# Altium schematic symbol library SchemLib.SchLib: 21 symbols
Pins are listed as number, name and electrical type; pins without a type are passive.

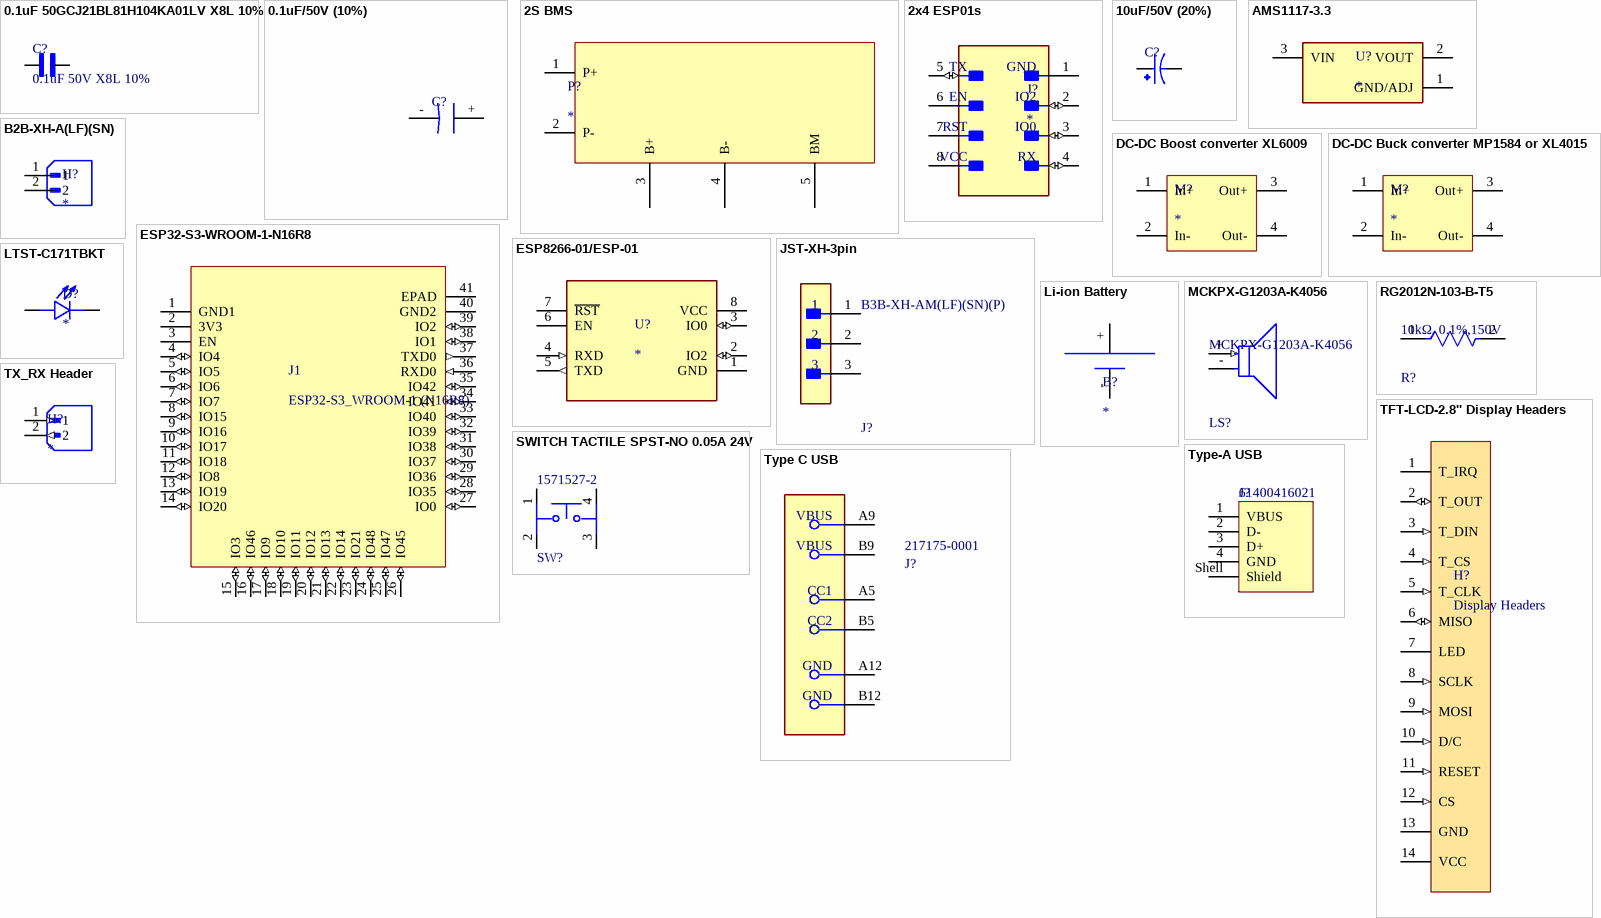
[diagram p0: symbols 0.1uF 50GCJ21BL81H104KA01LV X8L 10% to Type-A USB]

## 0.1uF 50GCJ21BL81H104KA01LV X8L 10%
designator C?, comment 0.1uF 50V X8L 10%
Cap Ceramic 0.1uF 50V X8L 10% Pad SMD 0805 Soft Termination 150C Automotive T/R; MF: Murata; MP: GCJ21BL81H104KA01L; SnapEDA_Link: https://www.snapeda.com/parts/GCJ21BL81H104KA01L/Murata+Electronics+North+America/view-part/?ref=snap; Package: 2012 Murata; Value: *; Check_prices: https://www.snapeda.com/parts/GCJ21BL81H104KA01L/Murata+Electronics+North+America/view-part/?ref=eda
footprint CAPC2012X145N
pins: 1, 2

## 0.1uF/50V (10%)
designator C?
Capacitor 0.1uF/50V (20%) SMD
pins: +, -

## 2S BMS
designator P?
footprint 2S BMS
pins: 1 P+ (power), 2 P- (power), 3 B+ (power), 4 B- (power), 5 BM (power)

## 2x4 ESP01s
designator J?
footprint MODULE_ESP-01
pins: 1 (power), 2 (io), 3 (io), 4 (io), 5 (io), 6 (power), 7 (power), 8 (power)
text: TX; GND; EN; IO2; RST; IO0; VCC; RX

## 10uF/50V (20%)
designator C?
Capacitor 10uF/50V (20%) SMD Electrolytic 5*5.4
footprint CAP_EEE1EA100SR
pins: 1, 2

## AMS1117-3.3
designator U?
Sot223/Pkg 1-Amp 3.3-Volt Low Drop Out Voltage Regulatator; MF: Advanced Monolithic Systems; MP: AMS1117-3.3; Package: SOT-223 Seeed Technology; Value: *; Check_prices: https://www.snapeda.com/parts/AMS1117-3.3/Advanced+Monolithic+Systems/view-part/?ref=eda; Price: None; Availability: Not in stock; SnapEDA_Link: https://www.snapeda.com/parts/AMS1117-3.3/Advanced+Monolithic+Systems/view-part/?ref=snap
footprint SOT229P700X180-4N
pins: 1 GND/ADJ (power), 2 VOUT (power), 3 VIN (power)

## B2B-XH-A(LF)(SN)
designator H?
Connector Header Through Hole 2 position 0.098 (2.50mm); MF: JST Sales America Inc.; MP: B2B-XH-A(LF)(SN); SnapEDA_Link: https://www.snapeda.com/parts/B2B-XH-A(LF)(SN)/JST+Sales+America+Inc./view-part/?ref=snap; Package: None; Value: *; Check_prices: https://www.snapeda.com/parts/B2B-XH-A(LF)(SN)/JST+Sales+America+Inc./view-part/?ref=eda
footprint JST_B2B-XH-A(LF)(SN)
pins: 1, 2

## DC-DC Boost converter XL6009
designator M?
footprint DC-DC boost
pins: 1 In+ (power), 2 In- (power), 3 Out+ (power), 4 Out- (power)

## DC-DC Buck converter MP1584 or XL4015
designator M?
footprint DC-DC boost
pins: 1 In+ (power), 2 In- (power), 3 Out+ (power), 4 Out- (power)

## ESP32-S3-WROOM-1-N16R8
designator J1, comment ESP32-S3_WROOM-1 (N16R8)
Multiprotocol Modules SMD Module, ESP32-S3R8, 3.3V, 8 MB Octal PSRAM Die, 16 MB Quad SPI Flash, PCB Antenna; Supplier 1: Digikey; Supplier Part Number 1: 1965-ESP32-S3-WROOM-1-N16R8CT-ND
footprint XCVR_ESP32-S3-WROOM-1-N16R2
pins: 1 GND1 (power), 2 3V3 (power), 3 EN (power), 4 IO4 (io), 5 IO5 (io), 6 IO6 (io), 7 IO7 (io), 8 IO15 (io), 9 IO16 (io), 10 IO17 (io), 11 IO18 (io), 12 IO8 (io), 13 IO19 (io), 14 IO20 (io), 15 IO3 (io), 16 IO46 (io), 17 IO9 (io), 18 IO10 (io), 19 IO11 (io), 20 IO12 (io), 21 IO13 (io), 22 IO14 (io), 23 IO21 (io), 24 IO48 (io), 25 IO47 (io), 26 IO45 (io), 27 IO0 (io), 28 IO35 (io), 29 IO36 (io), 30 IO37 (io), 31 IO38 (io), 32 IO39 (io), 33 IO40 (io), 34 IO41 (io), 35 IO42 (io), 36 RXD0 (in), 37 TXD0 (out), 38 IO1 (io), 39 IO2 (io), 40 GND2 (power), 41 EPAD (power)

## ESP8266-01/ESP-01
designator U?
MakerFocus 4pcs ESP8266 ESP-01 Serial Wireless WiFi Transceiver Receiver Module 1MB SPI Flash DC3.0-3.6V Internet of Things WiFi Module Board Compatible with Ar duino; MP: ESP8266-01/ESP-01; Value: *; Package: None; Availability: Unavailable; Price: None
footprint XCVR_ESP8266-01/ESP-01
pins: 1 GND (power), 2 IO2 (io), 3 IO0 (io), 4 RXD (in), 5 TXD (out), 6 EN (power), 7 ~{RST} (power), 8 VCC (power)

## JST-XH-3pin
designator J?, comment B3B-XH-AM(LF)(SN)(P)
CONN HEADER VERT 3POS 2.5MM; Number of Positions: 3; Connector Type: Male Pin; Pitch: 0.098inch; Package Quantity: 1000; Series: XH; Termination: Press-Fit; Contact Type: Male Pin; Color: Natural; Packaging: Bulk; Contact Plating: Tin; Mount: Through Hole; Number of Rows: 1
footprint FP-B3B-XH-AM_LF_SN_P-MFG
pins: 1, 2, 3

## Li-ion Battery
designator B?
pins: +, -

## LTST-C171TBKT
designator D?
Blue 470nm LED Indication - Discrete 3.3V 0805 (2012 Metric); MF: Lite-On Inc.; MP: LTST-C171TBKT; SnapEDA_Link: https://www.snapeda.com/parts/LTST-C171TBKT/Lite-On+Inc./view-part/?ref=snap; Package: 0805 Lite-On; Value: *; Check_prices: https://www.snapeda.com/parts/LTST-C171TBKT/Lite-On+Inc./view-part/?ref=eda
footprint DIOC200X125X110
pins: A POS, C NEG

## MCKPX-G1203A-K4056
designator LS?
MAGNETIC BUZZER AND TRANSDUCER - More Details; Manufacturer: Multicomp Pro; Operating Supply Voltage: 3V; Current: 30mA; Frequency: 2300Hz; Max Supply Voltage: 5V; Min Supply Voltage: 2V; Standoff Height: 0.5mm; ComponentLink2Description: Datasheet; ComponentLink2URL: http://www.farnell.com/datasheets/1498149.pdf?_ga=2.17855225.1157923166.1572356775-536200964.1569240579; Manufacturer Part Number: MCKPX-G1203A-K4056; Temperature Range High: +70°C; Device Class L2: Audio Products; Temperature Range Low: -20°C; Package: 0; Temperature: -20°C to +70°C; Category: Speak; Octopart: https://octopart.com/mckpx-g1203a-k4056-multicomp-12157154; RoHS: TRUE; Lead Free: Yes; Height: 9.5mm; Device Class L1: Electromechanical; Automotive: No; Device Class L3: Buzzers
footprint FP-MCKPX-G1203A-K4056-MFG - duplicate
pins: + (in), - (power)

## RG2012N-103-B-T5
designator R?, comment 10kΩ, 0.1%,150V
Automotive Metal Thin Film Chip Resistor, 0805, 10kΩ, 0.1%, 10ppm/°C, 0.125W, 150V; Max Power Dissipation: 125mW; Power Rating: 100mW; Voltage Rating: 100V; Resistance: 10kR; Length: 0.079inch; Min Operating Temperature: -55°C; Width: 0.049inch; Case/Package: 0805; Size Code: 0805; Case Code (Imperial): 0805; Max Operating Temperature: 155°C; Case Code (Metric): 2012; Packaging: Tape and Reel; Number of Terminations: 2; Voltage Rating (DC): 150V; Package Quantity: 5000; Features: Automotive AEC-Q200; Resistor Type: Thin Film; Height: 0.02inch; RoHS Compliant: Yes; Termination: SMD/SMT; Lead Free: Lead Free; Temperature Coefficient: 10ppm/°C; Series: RG; Tolerance: 0.1%
footprint FP-RG2012-IPC_A
footprint FP-RG2012-IPC_B
footprint FP-RG2012-IPC_C
footprint FP-RG2012-MFG
pins: 1, 2

## SWITCH TACTILE SPST-NO 0.05A 24V
designator SW?, comment 1571527-2
SWITCH TACTILE SPST-NO 0.05A 24V; Illumination Type: Non-Illuminated; Switch Travel: 0.25mm; Max Current Rating: 50mA; Actuator Type: Standard; Mechanical Life: 200000Cycles; Switch Function: Off-Mom; Actuator Length: 0.7mm; Actuator Material: Polyphenylene; Operating Force: 100gf; Throw Configuration: SPST; Series: FSMJSML, Alcoswitch; Depth: 10mm; Mount: Surface Mount; RoHS Compliant: Yes; Voltage Rating (DC): 24V; Contact Material: Copper Alloy; Case/Package: SMD/SMT; Material: Polyamide; Package Quantity: 1; Packaging: Tape and Reel; ELV: Compliant; Type: Switch; Min Operating Temperature: -35°C; Termination: Gull Wing; Length: 6mm; Orientation: Straight; Current Rating: 50mA; Height: 4.3mm; Max Operating Temperature: 85°C; REACH SVHC: No SVHC; Contact Plating: Silver
footprint FP-1571527-2-MFG
pins: 1, 2, 3, 4

## TFT-LCD-2.8'' Display Headers
designator H?, comment Display Headers
footprint Display Without Cutouts
footprint SULLINS_PPTC061LFBN-RC
pins: 1 T_IRQ, 2 T_OUT (io), 3 T_DIN (in), 4 T_CS (in), 5 T_CLK (in), 6 MISO (io), 7 LED (power), 8 SCLK (in), 9 MOSI (in), 10 D/C (in), 11 RESET (in), 12 CS (in), 13 GND (power), 14 VCC (power)

## TX_RX Header
designator H?
footprint JST_B2B-XH-A(LF)(SN)
pins: 1 (in), 2 (out)

## Type C USB
designator J?, comment 217175-0001
CONN RCP USB2.0 C 6+18P SMD RA
footprint FP-217175-0001-MFG
pins: A5 CC1, A9 VBUS (power), A12 GND (power), B5 CC2, B9 VBUS (power), B12 GND (power)

## Type-A USB
designator J?, comment 61400416021
NexarPartId: 21041530; Contact Resistance: 20mΩ; Gender: Receptacle; Voltage Rating (DC): 30V; Current Rating: 1.5A; Connector Type: USB; Insulation Resistance: 1GΩ; USB Standard: USB 2.0; Number of Contacts: 4; Number of Ports: 1; Width: 14.4mm; REACH SVHC: Unknown; Contact Plating: Gold; Length: 15.8mm; Lead Free: Lead Free; Max Operating Temperature: 105°C; Orientation: Horizontal; Contact Material: Copper; Voltage Rating: 30V; Min Operating Temperature: -40°C; Flammability Rating: UL94 V-0; Color: White; RoHS: Compliant; Number of Pins: 4; Mount: Horizontal, Through Hole; Number of Positions: 4; Operating Supply Voltage: 30V; Insulation Material: PBT; Termination: Solder
footprint 61400416021 (USB 2.0 Type A Horizontal)
pins: 1 VBUS, 2 D-, 3 D+, 4 GND, Shell Shield